# Altium footprint library WISP_AD10.PcbLib: 84 footprints (part 2 of 6)
Each footprint in its own frame and in the unit in brackets; x right, y up, seen from the top. Pads: shape width x height; smd on the part's side, far side on the other; paste and mask are expansions set on the pad; w line width, h text height; cw(c..) or ccw(c..) is an arc to the next point about the centre after c.
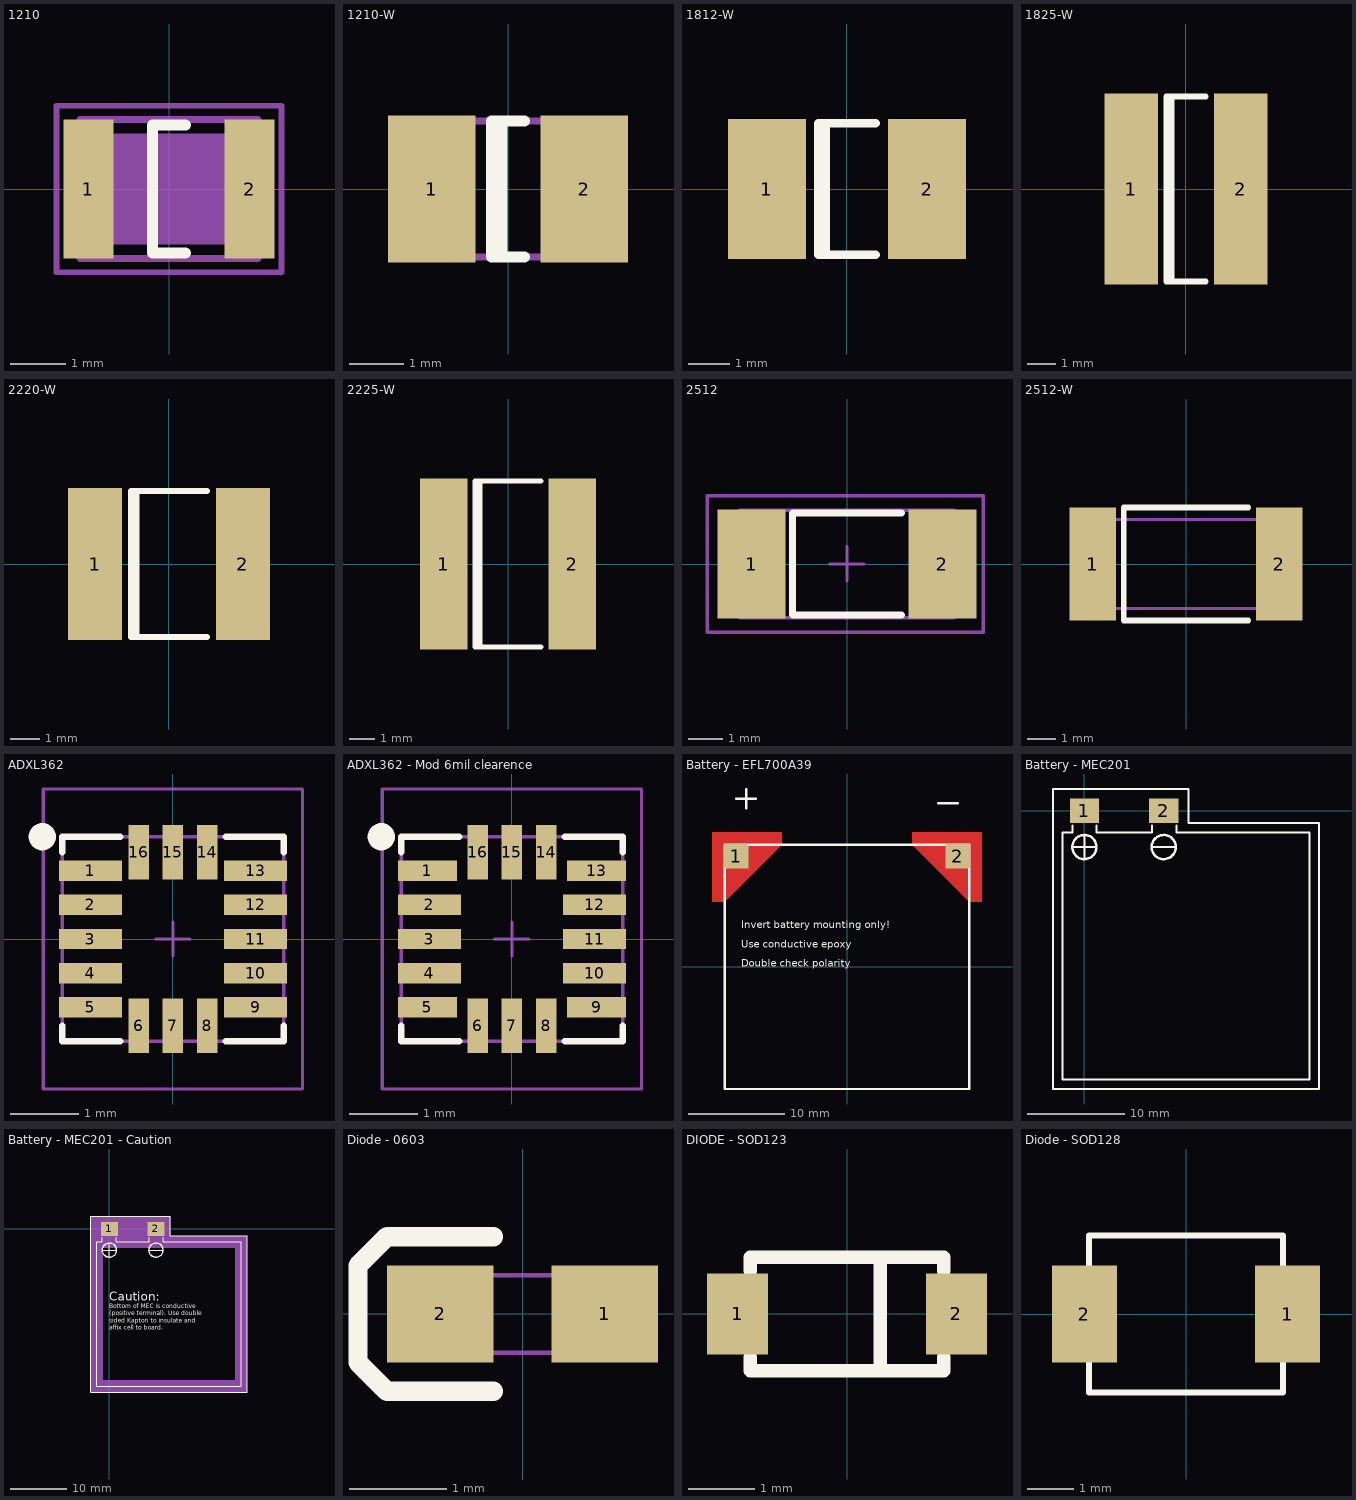
[diagram p1: the footprints below, top view; thin cyan lines are the x and y axes]

## 1210 [mm] "Surface Mount; Body 3.2 x 2.5 mm (LxW typ)"
height 2.5
pads (2):
  rect 0.9x2.5 smd: 1(-1.45,0) 2(1.45,0)
Top Overlay:
  lines w0.2: 0.3,-1.15 -0.3,-1.15 -0.3,1.15 0.3,1.15
Mechanical 1:
  rectangle: -1.25,-1 1.25,1
Mechanical 13:
  lines w0.127: -1.6,-1.25 -1.6,1.25 1.6,1.25 1.6,-1.25 -1.6,-1.25
Mechanical 15:
  lines w0.1: -0.3,0 0.3,0 ; 0,-0.3 0,0.3 ; -2.025,-1.5 2.025,-1.5 2.025,1.5 -2.025,1.5 -2.025,-1.5
3D body: height 2.5, standoff 0, extent -1.6,-1.25 1.6,1.25

## 1210-W [mm] "Chip Capacitor; Body 3.2 x 2.5 mm (LxW typ)"
height 1.7
pads (2):
  rect 1.6x2.7 smd: 1(-1.4,0) 2(1.4,0)
Top Overlay:
  lines w0.2: -0.11,-1.25 -0.11,1.25 ; 0.3,-1.25 -0.3,-1.25 -0.3,1.25 0.3,1.25
Mechanical 13:
  lines w0.127: -1.6,-1.25 -1.6,1.25 1.6,1.25 1.6,-1.25 -1.6,-1.25
3D body: height 2.5, standoff 0, extent -1.6,-1.25 1.6,1.25

## 1812-W [mm] "Chip Capacitor; Body 4.5 x 3.2 mm (LxW typ)"
height 1.7
pads (2):
  rect 1.9x3.4 smd: 1(-1.95,0) 2(1.95,0)
Top Overlay:
  lines w0.2: -0.51,-1.6 -0.51,1.6 ; 0.7,-1.6 -0.7,-1.6 -0.7,1.6 0.7,1.6

## 1825-W [mm] "Chip Capacitor; Body 4.5 x 6.4 mm (LxW typ)"
height 1.7
pads (2):
  rect 1.9x6.8 smd: 1(-1.95,0) 2(1.95,0)
Top Overlay:
  lines w0.2: -0.51,-3.3 -0.51,3.3 ; 0.7,-3.3 -0.7,-3.3 -0.7,3.3 0.7,3.3

## 2220-W [mm] "Chip Capacitor; Body 5.7 x 5.0 mm (LxW typ)"
height 1.8
pads (2):
  rect 1.85x5.2 smd: 1(-2.525,0) 2(2.525,0)
Top Overlay:
  lines w0.2: -1.11,-2.5 -1.11,2.5 ; 1.3,-2.5 -1.3,-2.5 -1.3,2.5 1.3,2.5

## 2225-W [mm] "Chip Capacitor; Body 5.6 x 6.4 mm (LxW typ)"
height 2
pads (2):
  rect 1.9x6.8 smd: 1(-2.55,0) 2(2.55,0)
Top Overlay:
  lines w0.2: -1.11,-3.3 -1.11,3.3 ; 1.3,-3.3 -1.3,-3.3 -1.3,3.3 1.3,3.3

## 2512 [mm] "Chip Capacitor, Body 2.54x1.27mm, IPC Low Density"
height 0.6
pads (2):
  rect 2x3.2 smd: 1(-2.8,0) 2(2.8,0)
Top Overlay:
  lines w0.2: 1.6,-1.5 -1.6,-1.5 -1.6,1.5 1.6,1.5
Mechanical 13:
  lines w0.1: -3.15,-1.575 -3.15,1.575 3.15,1.575 3.15,-1.575 -3.15,-1.575
Mechanical 15:
  lines w0.1: -0.5,0 0.5,0 ; 0,-0.5 0,0.5 ; -4.1,-2 -4.1,2 4,2 4,-2 -4.1,-2
3D body: height 0.6, standoff 0, extent -3.15,-1.575 3.15,1.575

## 2512-W [mil]
height 82.68
pads (2):
  rect 65x158 smd: 1(-130,0) 2(130,0)
Top Overlay:
  lines w7.87: 86.54,-78.74 -86.69,-78.74 -86.69,78.74 86.54,78.74
Mechanical 13:
  lines w3.94: -124.01,-62 -124.01,62.01 124.02,62.01 124.02,-62 -124.01,-62
3D body: height 23.62, standoff 0, extent -124.01,-62 124.02,62.01

## ADXL362 [mm] "3D ACCEL DIG LO PWR 3AX 16LGA"
height 1.4
pads (16):
  rect 0.925x0.3 smd: 1(-1.212,1) 2(-1.212,0.5) 3(-1.212,0) 4(-1.212,-0.5) 5(-1.212,-1) 9(1.212,-1) 10(1.212,-0.5) 11(1.212,0) 12(1.212,0.5) 13(1.212,1)
  rect 0.3x0.8 smd: 6(-0.5,-1.275) 7(0,-1.275) 8(0.5,-1.275) 14(0.5,1.275) 15(0,1.275) 16(-0.5,1.275)
Top Overlay:
  circle w0.2: c-1.916,1.5 r0.1
  lines w0.1: -1.625,-1.275 -1.625,-1.5 -0.775,-1.5 ; -1.625,1.275 -1.625,1.5 -0.775,1.5 ; 0.775,-1.5 1.625,-1.5 1.625,-1.275 ; 0.775,1.5 1.625,1.5 1.625,1.275
Mechanical 13:
  lines w0.05: -1.625,-1.5 1.625,-1.5 1.625,1.5 -1.625,1.5 -1.625,-1.5
Mechanical 15:
  lines w0.05: -0.25,0 0.25,0 ; 0,-0.25 0,0.25 ; -1.9,-2.2 -1.9,2.2 1.9,2.2 1.9,-2.2 -1.9,-2.2
3D body: height 1.4, standoff 0, extent -1.625,-1.5 1.625,1.5

## ADXL362 - Mod 6mil clearence [mm] "3D ACCEL DIG LO PWR 3AX 16LGA"
height 1.4
pads (16):
  rect 0.869x0.3 smd: 1(-1.24,1) 5(-1.24,-1) 9(1.24,-1) 13(1.24,1)
  rect 0.925x0.3 smd: 2(-1.212,0.5) 3(-1.212,0) 4(-1.212,-0.5) 10(1.212,-0.5) 11(1.212,0) 12(1.212,0.5)
  rect 0.3x0.8 smd: 6(-0.5,-1.275) 7(0,-1.275) 8(0.5,-1.275) 14(0.5,1.275) 15(0,1.275) 16(-0.5,1.275)
Top Overlay:
  circle w0.2: c-1.916,1.5 r0.1
  lines w0.1: -1.625,-1.275 -1.625,-1.5 -0.775,-1.5 ; -1.625,1.275 -1.625,1.5 -0.775,1.5 ; 0.775,-1.5 1.625,-1.5 1.625,-1.275 ; 0.775,1.5 1.625,1.5 1.625,1.275
Mechanical 13:
  lines w0.05: -1.625,-1.5 -1.625,1.5 1.625,1.5 1.625,-1.5 -1.625,-1.5
Mechanical 15:
  lines w0.05: -0.25,0 0.25,0 ; 0,-0.25 0,0.25 ; -1.9,-2.2 1.9,-2.2 1.9,2.2 -1.9,2.2 -1.9,-2.2
3D body: height 1.4, standoff 0, extent -1.625,-1.5 1.625,1.5

## Battery - EFL700A39 [mm] "ST Micro - EnFilm - rechargeable solid state lithium thin film battery"
height 0.2
pads (2):
  rect 2.54x2.54 smd: 1(-11.5,11.5) 2(11.5,11.5)
Top Layer:
  region: 6.8,12.7 12.7,6.8 14,6.8 14,14 6.8,14
  region: -12.7,6.8 -6.8,12.7 -6.8,14 -14,14 -14,6.8
Top Overlay:
  lines w0.254: -11.5,17.5 -9.5,17.5 ; -10.5,16.5 -10.5,18.5 ; 9.5,17 11.5,17 ; -12.7,-12.7 -12.7,12.7 12.7,12.7 12.7,-12.7 -12.7,-12.7
  text "Double check polarity" at -11,0 h0.76
  text "Use conductive epoxy" at -11,2 h0.76
  text "Invert battery mounting only!" at -11,4 h0.76

## Battery - MEC201 [mm] "Thin-Film Battery - 25.4 x 25.4 x 0.170mm"
height 0.17
pads (2):
  rect 3x2.5 smd: 1(0,0) 2(8.2,0)
Top Overlay:
  circle w0.254: c8.2,-3.75 r1.25
  circle w0.254: c0,-3.75 r1.25
  lines w0.2: -1.25,-3.75 1.25,-3.75 ; -1.25,-1.5 -1.25,-2.25 -1.5,-2.25 -2.25,-2.25 -2.25,-27.75 23.25,-27.75 23.25,-2.25 9.5,-2.25 9.5,-1.5 ; 0,-5 0,-2.5 ; 1.25,-1.5 1.25,-2.25 7,-2.25 7,-1.5 ; 7,-3.75 9.45,-3.75 ; -3.25,-28.75 24.25,-28.75 24.25,-1.25 10.75,-1.25 10.75,2.25 -3.25,2.25 -3.25,-1.25 -3.25,-28.75

## Battery - MEC201 - Caution [mm] "Thin-Film Battery - 25.4 x 25.4 x 0.170mm"
height 0.17
pads (2):
  rect 3x2.5 smd: 1(0,0) 2(8.2,0)
Top Overlay:
  circle w0.254: c0,-3.75 r1.25
  circle w0.254: c8.2,-3.75 r1.25
  lines w0.2: -1.25,-3.75 1.25,-3.75 ; -1.25,-1.5 -1.25,-2.25 -1.5,-2.25 -2.25,-2.25 -2.25,-27.75 23.25,-27.75 23.25,-2.25 9.5,-2.25 9.5,-1.5 ; 0,-5 0,-2.5 ; 1.25,-1.5 1.25,-2.25 7,-2.25 7,-1.5 ; 7,-3.75 9.45,-3.75 ; -3.25,-28.75 -3.25,-1.25 -3.25,2.25 10.75,2.25 10.75,-1.25 24.25,-1.25 24.25,-28.75 -3.25,-28.75
  text "affix cell to board." at 0,-17.78 h0.76
  text "sided Kapton to insulate and" at 0,-16.51 h0.76
  text "(positive terminal). Use double" at 0,-15.24 h0.76
  text "Bottom of MEC is conductive" at 0,-13.97 h0.76
  text "Caution:" at 0,-12.7 h1.52
Mechanical 3:
  rectangle: 22.098,-28.75 24.25,-1.25
  rectangle: -3.25,-28.75 -1.098,-1.25
  region: 24.25,-28.75 24.25,-26.598 -3.25,-26.598 -3.25,-28.75
  region: 24.25,-3.402 24.25,-1.25 -3.25,-1.25 -3.25,-3.402
  rectangle: -3.25,-1.25 10.75,2.25

## Diode - 0603 [mm] "Diode: Body 1.6 x 0.8 mm (LxW typ)"
height 0.87
pads (2):
  rect 1.1x1 smd: 1(0.85,0) 2(-0.85,0)
Top Overlay:
  lines w0.2: -0.3,-0.8 -1.4,-0.8 -1.7,-0.5 -1.7,0.4 -1.7,0.5 -1.4,0.8 -0.3,0.8
Mechanical 13:
  lines w0.051: -0.8,-0.4 0.8,-0.4 0.8,0.4 -0.8,0.4 -0.8,-0.4
  text ".Designator" at -0.65,-0.1 h0.3
3D body: height 0.8, standoff 0, extent -0.8,-0.4 0.8,0.4

## DIODE - SOD123 [mil] "SOD-123; 2 Leads; Body 2.7 x 1.6 mm, (LxW)"
height 53.15
pads (2):
  rect 36x48 smd: 1(-64.5,0) 2(64.5,0)
Top Overlay:
  lines w7.87: -57.09,-25.59 -57.09,-33.46 57.09,-33.46 57.09,-25.59 ; -57.09,25.59 -57.09,33.46 57.09,33.46 57.09,25.59 ; 19.68,-33.46 19.68,33.46
3D body: height 90.55, standoff 0, extent -57.09,-33.46 57.09,33.46

## Diode - SOD128 [mm] "Diode: Body 1.6 x 0.8 mm (LxW typ)"
height 0.87
pads (2):
  rect 1.4x2.1 smd: 1(2.2,0) 2(-2.2,0)
Top Overlay:
  lines w0.127: -2.1,-1.7 -2.1,1.7 2.1,1.7 2.1,-1.7 -2.1,-1.7
3D body: height 1.11, standoff 0, extent -2.6,-1.35 2.6,1.35